# Altium footprint library BM04B-PASS-1-TFTLFSN.PcbLib: 1 footprints
Each footprint in its own frame and in the unit in brackets; x right, y up, seen from the top. Pads: shape width x height; smd on the part's side, far side on the other; paste and mask are expansions set on the pad; w line width, h text height; cw(c..) or ccw(c..) is an arc to the next point about the centre after c.
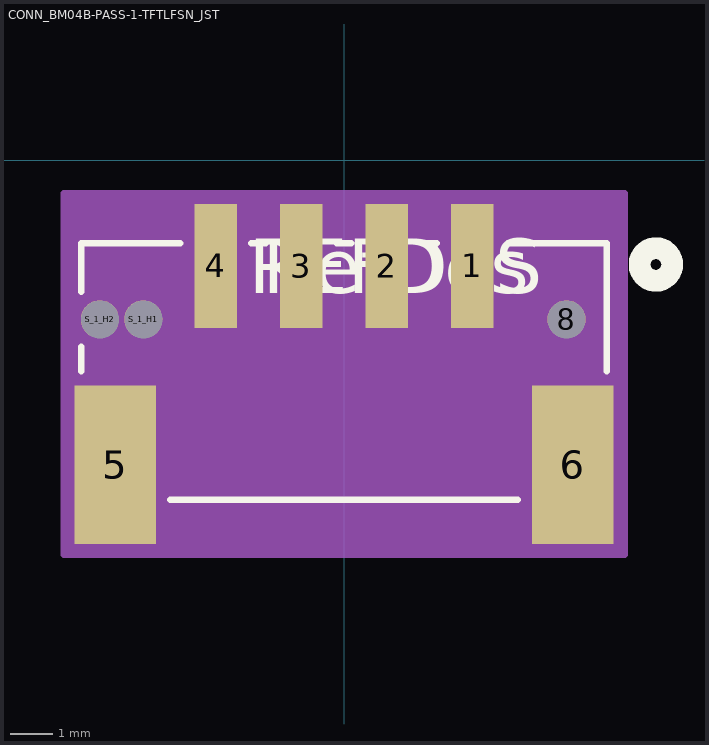
[diagram p0: the footprint, top view; thin cyan lines are the x and y axes]

## CONN_BM04B-PASS-1-TFTLFSN_JST [mil]
pads (9):
  rect 39x114 smd paste+0 mask+0: 1(118.11,-97.25) 2(39.37,-97.25) 3(-39.37,-97.25) 4(-118.11,-97.25)
  rect 75x146 smd paste-73 mask-73: 5(-210.63,-280.32) 6(210.63,-280.32)
  round 35 / inner round 60 / far side round 35 hole 35 unplated paste+0 mask+0: 8(204.72,-146.46) S_1_H1(-184.72,-146.46) S_1_H2(-224.72,-146.46)
Top Overlay:
  circle w20: c287,-96 r15
  lines w6: -242,-194.22 -242,-171.72 ; -242,-121.21 -242,-76.5 -150.71,-76.5 ; -160.03,-312.5 160.03,-312.5 ; -85.51,-76.5 -71.97,-76.5 ; -6.77,-76.5 6.77,-76.5 ; 71.97,-76.5 85.51,-76.5 ; 150.71,-76.5 242,-76.5 242,-194.22
  text "RefDes" at -75,-122.25 h50
  text "REFDES" at -87.5,-122.25 h50
Bottom Overlay:
  circle w20: c287,-96 r15
Mechanical 13:
  circle w20: c118,-187 r15
  lines w1: -237,-307.5 237,-307.5 237,-81.5 -237,-81.5 -237,-307.5
  text "RefDes2" at -87.5,-122.25 h50
Mechanical 15:
  region: 258.13,-30.25 -258.13,-30.25 -258.13,-363.32 258.13,-363.32
  lines w6: -258.13,-363.32 -258.13,-30.25 258.13,-30.25 258.13,-363.32 -258.13,-363.32
Multi-Layer:
  lines w35: -224.72,-146.46 -184.72,-146.46